# EAGLE library part TPS61165 (library ic)
TPS61165 High Brightness White LED Driver
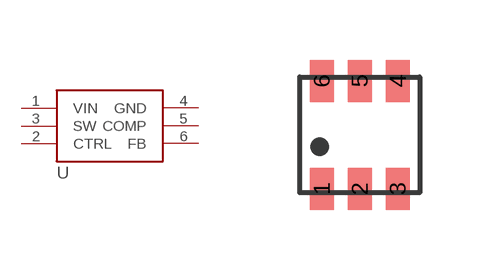
[diagram p0: symbol with the pads of SOT-23-6; footprint SOT-23-6]

Designator prefix -

## TPS61165  [SOT-23-6]
1  VIN  pwr
2  CTRL  in
3  SW  in
4  GND  pwr
5  COMP  out
6  FB  in

## Footprint SOT-23-6 (pad centres in mm)
smd 0.6 x 1.05: 1 -0.95,-1.35; 2 0,-1.35; 3 0.95,-1.35; 4 0.95,1.35; 5 0,1.35; 6 -0.95,1.35